# EAGLE library part DF3-12S (library con-hirose)
Single row female connector 2mm 12 way
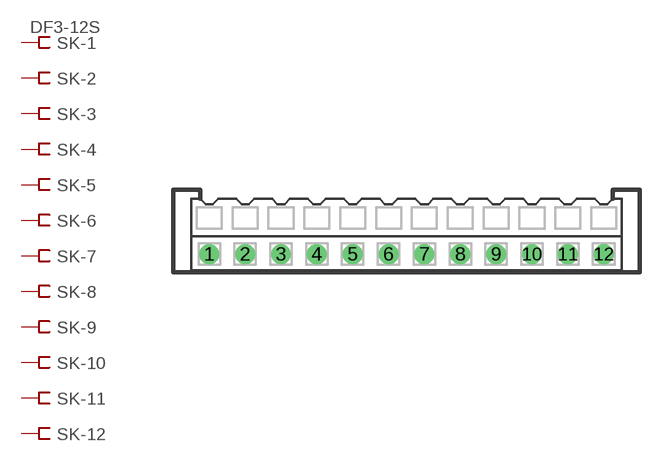
[diagram p12: symbol with the pads of DF3S-12; footprint DF3S-12]

Designator prefix SK; gates -1=FV -2=F -3=F -4=F -5=F -6=F -7=F -8=F -9=F -10=F -11=F -12=F

## DF3-12S  [DF3S-12]
1  -1:S  pas
2  -2:S  pas
3  -3:S  pas
4  -4:S  pas
5  -5:S  pas
6  -6:S  pas
7  -7:S  pas
8  -8:S  pas
9  -9:S  pas
10  -10:S  pas
11  -11:S  pas
12  -12:S  pas

## Footprint DF3S-12 (pad centres in mm)
Single row connector 2mm 12 way
drill 0.6 round: 1 -11,-1; 2 -9,-1; 3 -7,-1; 4 -5,-1; 5 -3,-1; 6 -1,-1; 7 1,-1; 8 3,-1; 9 5,-1; 10 7,-1; 11 9,-1; 12 11,-1